# Altium schematic symbol library CC0201MRX5R5BB105.SchLib: 1 symbol
Pins are listed as number, name and electrical type; pins without a type are passive.

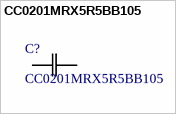
[diagram p0: symbol CC0201MRX5R5BB105]

## CC0201MRX5R5BB105
designator C?
No Description Available; Manufacturer_Name: Yageo; Copyright: Copyright (C) 2025 Ultra Librarian. All rights reserved.; Manufacturer_Part_Number: CC0201MRX5R5BB105
footprint CAP_CC0201_YAG
pins: 1, 2